# EAGLE library part DIST_TO_TETHER (library CONN, 6 pin connector to screw connector)
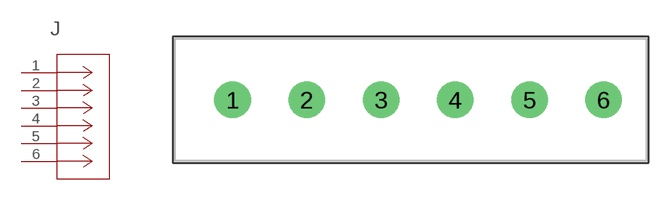
[diagram p0: symbol with the pads of CON6_P5MM_VER_TERM-BLK_TYC; footprint CON6_P5MM_VER_TERM-BLK_TYC]

Designator prefix J

## DIST_TO_TETHER (BUILT_BY: EMA_UL_Team; MANUFACTURER_PART_NUMBER: 796636-6; SOURCELIBRARY: Tyco_2012-04-26; VENDOR: TE Connectivity)  [CON6_P5MM_VER_TERM-BLK_TYC]
1  1  pas
2  2  pas
3  3  pas
4  4  pas
5  5  pas
6  6  pas

## Footprint CON6_P5MM_VER_TERM-BLK_TYC (pad centres in mm)
drill 1.524 pad 2.5: 1 0,0; 2 5.08,0; 3 10.16,0; 4 15.24,0; 5 20.32,0; 6 25.4,0